# EAGLE library part 74LV8154 (library 74XXX-little-logic)
DUAL 16 BIT BINARY COUNTER
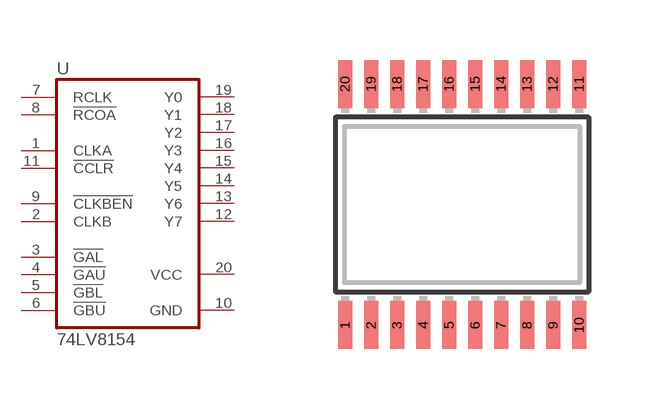
[diagram p10: symbol with the pads of TSSOP20; footprint TSSOP20]

Designator prefix U

## 74LV8154PW (P1I: o)  [TSSOP20]
1  CLKA  in
2  CLKB  in
3  !GAL!  in
4  !GAU!  in
5  !GBL!  in
6  !GBU!  in
7  RCLK  in
8  !RCOA!  out
9  !CLKBEN!  in
10  GND  pwr
11  !CCLR!  in
12  Y7  out
13  Y6  out
14  Y5  out
15  Y4  out
16  Y3  out
17  Y2  out
18  Y1  out
19  Y0  out
20  VCC  pwr

## Footprint TSSOP20 (pad centres in mm)
Thin Shrink Small Outline Plastic 20
smd 0.35 x 1.2: 1 -2.925,-3.018; 2 -2.275,-3.018; 3 -1.625,-3.018; 4 -0.975,-3.018; 5 -0.325,-3.018; 6 0.325,-3.018; 7 0.975,-3.018; 8 1.625,-3.018; 9 2.275,-3.018; 10 2.925,-3.018; 11 2.925,3.018; 12 2.275,3.018; 13 1.625,3.018; 14 0.975,3.018; 15 0.325,3.018; 16 -0.325,3.018; 17 -0.975,3.018; 18 -1.625,3.018; 19 -2.275,3.018; 20 -2.925,3.018